# EAGLE library part STA1085EOA3TR (library STA1085EOA3TR)
Accordo2 Dual Core CortexR4/CortexM3 processor, with embedded SRAM, integrated DSP sound subsystem, audio ADCs and DACs, isolated CAN MCU for car radio applications Source: Datasheet <https://www.st.com/resource/en/datasheet/sta1080.pdf>
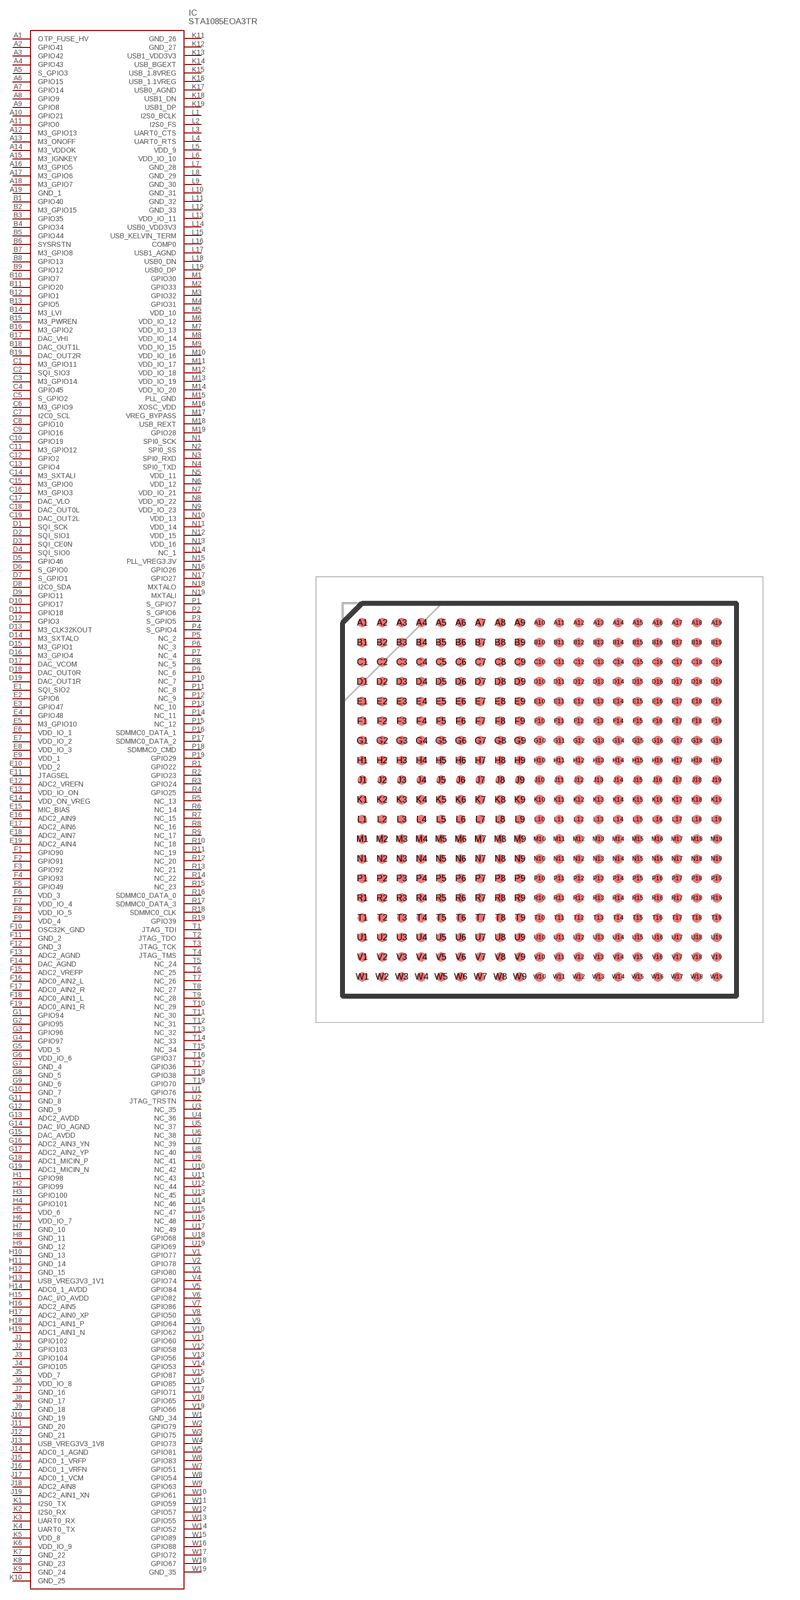
[diagram p0: symbol with the pads of BGA361C80P19X19_1600X1600X170; footprint BGA361C80P19X19_1600X1600X170]

Designator prefix IC

## STA1085EOA3TR (Description: Accordo2 Dual Core CortexR4/CortexM3 processor, with embedded SRAM, integrated DSP sound subsystem, audio ADCs and DACs, isolated CAN MCU for car radio applications; Height: 1.7mm; Manufacturer_Name: STMicroelectronics; Manufacturer_Part_Number: STA1085EOA3TR)  [BGA361C80P19X19_1600X1600X170]
A1  OTP_FUSE_HV
A2  GPIO41
A3  GPIO42
A4  GPIO43
A5  S_GPIO3
A6  GPIO15
A7  GPIO14
A8  GPIO9
A9  GPIO8
A10  GPIO21
A11  GPIO0
A12  M3_GPIO13
A13  M3_ONOFF
A14  M3_VDDOK
A15  M3_IGNKEY
A16  M3_GPIO5
A17  M3_GPIO6
A18  M3_GPIO7
A19  GND_1
B1  GPIO40
B2  M3_GPIO15
B3  GPIO35
B4  GPIO34
B5  GPIO44
B6  SYSRSTN
B7  M3_GPIO8
B8  GPIO13
B9  GPIO12
B10  GPIO7
B11  GPIO20
B12  GPIO1
B13  GPIO5
B14  M3_LVI
B15  M3_PWREN
B16  M3_GPIO2
B17  DAC_VHI
B18  DAC_OUT1L
B19  DAC_OUT2R
C1  M3_GPIO11
C2  SQI_SIO3
C3  M3_GPIO14
C4  GPIO45
C5  S_GPIO2
C6  M3_GPIO9
C7  I2C0_SCL
C8  GPIO10
C9  GPIO16
C10  GPIO19
C11  M3_GPIO12
C12  GPIO2
C13  GPIO4
C14  M3_SXTALI
C15  M3_GPIO0
C16  M3_GPIO3
C17  DAC_VLO
C18  DAC_OUT0L
C19  DAC_OUT2L
D1  SQI_SCK
D2  SQI_SIO1
D3  SQI_CE0N
D4  SQI_SIO0
D5  GPIO46
D6  S_GPIO0
D7  S_GPIO1
D8  I2C0_SDA
D9  GPIO11
D10  GPIO17
D11  GPIO18
D12  GPIO3
D13  M3_CLK32KOUT
D14  M3_SXTALO
D15  M3_GPIO1
D16  M3_GPIO4
D17  DAC_VCOM
D18  DAC_OUT0R
D19  DAC_OUT1R
E1  SQI_SIO2
E2  GPIO6
E3  GPIO47
E4  GPIO48
E5  M3_GPIO10
E6  VDD_IO_1
E7  VDD_IO_2
E8  VDD_IO_3
E9  VDD_1
E10  VDD_2
E11  JTAGSEL
E12  ADC2_VREFN
E13  VDD_IO_ON
E14  VDD_ON_VREG
E15  MIC_BIAS
E16  ADC2_AIN9
E17  ADC2_AIN6
E18  ADC2_AIN7
E19  ADC2_AIN4
F1  GPIO90
F2  GPIO91
F3  GPIO92
F4  GPIO93
F5  GPIO49
F6  VDD_3
F7  VDD_IO_4
F8  VDD_IO_5
F9  VDD_4
F10  OSC32K_GND
F11  GND_2
F12  GND_3
F13  ADC2_AGND
F14  DAC_AGND
F15  ADC2_VREFP
F16  ADC0_AIN2_L
F17  ADC0_AIN2_R
F18  ADC0_AIN1_L
F19  ADC0_AIN1_R
G1  GPIO94
G2  GPIO95
G3  GPIO96
G4  GPIO97
G5  VDD_5
G6  VDD_IO_6
G7  GND_4
G8  GND_5
G9  GND_6
G10  GND_7
G11  GND_8
G12  GND_9
G13  ADC2_AVDD
G14  DAC_I/O_AGND
G15  DAC_AVDD
G16  ADC2_AIN3_YN
G17  ADC2_AIN2_YP
G18  ADC1_MICIN_P
G19  ADC1_MICIN_N
H1  GPIO98
H2  GPIO99
H3  GPIO100
H4  GPIO101
H5  VDD_6
H6  VDD_IO_7
H7  GND_10
H8  GND_11
H9  GND_12
H10  GND_13
H11  GND_14
H12  GND_15
H13  USB_VREG3V3_1V1
H14  ADC0_1_AVDD
H15  DAC_I/O_AVDD
H16  ADC2_AIN5
H17  ADC2_AIN0_XP
H18  ADC1_AIN1_P
H19  ADC1_AIN1_N
J1  GPIO102
J2  GPIO103
J3  GPIO104
J4  GPIO105
J5  VDD_7
J6  VDD_IO_8
J7  GND_16
J8  GND_17
J9  GND_18
J10  GND_19
J11  GND_20
J12  GND_21
J13  USB_VREG3V3_1V8
J14  ADC0_1_AGND
J15  ADC0_1_VRFP
J16  ADC0_1_VRFN
J17  ADC0_1_VCM
J18  ADC2_AIN8
J19  ADC2_AIN1_XN
K1  I2S0_TX
K2  I2S0_RX
K3  UART0_RX
K4  UART0_TX
K5  VDD_8
K6  VDD_IO_9
K7  GND_22
K8  GND_23
K9  GND_24
K10  GND_25
K11  GND_26
K12  GND_27
K13  USB1_VDD3V3
K14  USB_BGEXT
K15  USB_1.8VREG
K16  USB_1.1VREG
K17  USB0_AGND
K18  USB1_DN
K19  USB1_DP
L1  I2S0_BCLK
L2  I2S0_FS
L3  UART0_CTS
L4  UART0_RTS
L5  VDD_9
L6  VDD_IO_10
L7  GND_28
L8  GND_29
L9  GND_30
L10  GND_31
L11  GND_32
L12  GND_33
L13  VDD_IO_11
L14  USB0_VDD3V3
L15  USB_KELVIN_TERM
L16  COMP0
L17  USB1_AGND
L18  USB0_DN
L19  USB0_DP
M1  GPIO30
M2  GPIO33
M3  GPIO32
M4  GPIO31
M5  VDD_10
M6  VDD_IO_12
M7  VDD_IO_13
M8  VDD_IO_14
M9  VDD_IO_15
M10  VDD_IO_16
M11  VDD_IO_17
M12  VDD_IO_18
M13  VDD_IO_19
M14  VDD_IO_20
M15  PLL_GND
M16  XOSC_VDD
M17  VREG_BYPASS
M18  USB_REXT
M19  GPIO28
N1  SPI0_SCK
N2  SPI0_SS
N3  SPI0_RXD
N4  SPI0_TXD
N5  VDD_11
N6  VDD_12
N7  VDD_IO_21
N8  VDD_IO_22
N9  VDD_IO_23
N10  VDD_13
N11  VDD_14
N12  VDD_15
N13  VDD_16
N14  NC_1
N15  PLL_VREG3.3V
N16  GPIO26
N17  GPIO27
N18  MXTALO
N19  MXTALI
P1  S_GPIO7
P2  S_GPIO6
P3  S_GPIO5
P4  S_GPIO4
P5  NC_2
P6  NC_3
P7  NC_4
P8  NC_5
P9  NC_6
P10  NC_7
P11  NC_8
P12  NC_9
P13  NC_10
P14  NC_11
P15  NC_12
P16  SDMMC0_DATA_1
P17  SDMMC0_DATA_2
P18  SDMMC0_CMD
P19  GPIO29
R1  GPIO22
R2  GPIO23
R3  GPIO24
R4  GPIO25
R5  NC_13
R6  NC_14
R7  NC_15
R8  NC_16
R9  NC_17
R10  NC_18
R11  NC_19
R12  NC_20
R13  NC_21
R14  NC_22
R15  NC_23
R16  SDMMC0_DATA_0
R17  SDMMC0_DATA_3
R18  SDMMC0_CLK
R19  GPIO39
T1  JTAG_TDI
T2  JTAG_TDO
T3  JTAG_TCK
T4  JTAG_TMS
T5  NC_24
T6  NC_25
T7  NC_26
T8  NC_27
T9  NC_28
T10  NC_29
T11  NC_30
T12  NC_31
T13  NC_32
T14  NC_33
T15  NC_34
T16  GPIO37
T17  GPIO36
T18  GPIO38
T19  GPIO70
U1  GPIO76
U2  JTAG_TRSTN
U3  NC_35
U4  NC_36
U5  NC_37
U6  NC_38
U7  NC_39
U8  NC_40
U9  NC_41
U10  NC_42
U11  NC_43
U12  NC_44
U13  NC_45
U14  NC_46
U15  NC_47
U16  NC_48
U17  NC_49
U18  GPIO68
U19  GPIO69
V1  GPIO77
V2  GPIO78
V3  GPIO80
V4  GPIO74
V5  GPIO84
V6  GPIO82
V7  GPIO86
V8  GPIO50
V9  GPIO64
V10  GPIO62
V11  GPIO60
V12  GPIO58
V13  GPIO56
V14  GPIO53
V15  GPIO87
V16  GPIO85
V17  GPIO71
V18  GPIO65
V19  GPIO66
W1  GND_34
W2  GPIO79
W3  GPIO75
W4  GPIO73
W5  GPIO81
W6  GPIO83
W7  GPIO51
W8  GPIO54
W9  GPIO63
W10  GPIO61
W11  GPIO59
W12  GPIO57
W13  GPIO55
W14  GPIO52
W15  GPIO89
W16  GPIO88
W17  GPIO72
W18  GPIO67
W19  GND_35

## Footprint BGA361C80P19X19_1600X1600X170 (pad centres in mm)
LFBGA 361 16x16x1.7
smd 0.382 x 0.382: A1 -7.2,7.2; A2 -6.4,7.2; A3 -5.6,7.2; A4 -4.8,7.2; A5 -4,7.2; A6 -3.2,7.2; A7 -2.4,7.2; A8 -1.6,7.2; A9 -0.8,7.2; A10 0,7.2; A11 0.8,7.2; A12 1.6,7.2; A13 2.4,7.2; A14 3.2,7.2; A15 4,7.2; A16 4.8,7.2; A17 5.6,7.2; A18 6.4,7.2; A19 7.2,7.2; B1 -7.2,6.4; B2 -6.4,6.4; B3 -5.6,6.4; B4 -4.8,6.4; B5 -4,6.4; B6 -3.2,6.4; B7 -2.4,6.4; B8 -1.6,6.4; B9 -0.8,6.4; B10 0,6.4; B11 0.8,6.4; B12 1.6,6.4; B13 2.4,6.4; B14 3.2,6.4; B15 4,6.4; B16 4.8,6.4; B17 5.6,6.4; B18 6.4,6.4; B19 7.2,6.4; C1 -7.2,5.6; C2 -6.4,5.6; C3 -5.6,5.6; C4 -4.8,5.6; C5 -4,5.6; C6 -3.2,5.6; C7 -2.4,5.6; C8 -1.6,5.6; C9 -0.8,5.6; C10 0,5.6; C11 0.8,5.6; C12 1.6,5.6; C13 2.4,5.6; C14 3.2,5.6; C15 4,5.6; C16 4.8,5.6; C17 5.6,5.6; C18 6.4,5.6; C19 7.2,5.6; D1 -7.2,4.8; D2 -6.4,4.8; D3 -5.6,4.8; D4 -4.8,4.8; D5 -4,4.8; D6 -3.2,4.8; D7 -2.4,4.8; D8 -1.6,4.8; D9 -0.8,4.8; D10 0,4.8; D11 0.8,4.8; D12 1.6,4.8; D13 2.4,4.8; D14 3.2,4.8; D15 4,4.8; D16 4.8,4.8; D17 5.6,4.8; D18 6.4,4.8; D19 7.2,4.8; E1 -7.2,4; E2 -6.4,4; E3 -5.6,4; E4 -4.8,4; E5 -4,4; E6 -3.2,4; E7 -2.4,4; E8 -1.6,4; E9 -0.8,4; E10 0,4; E11 0.8,4; E12 1.6,4; E13 2.4,4; E14 3.2,4; E15 4,4; E16 4.8,4; E17 5.6,4; E18 6.4,4; E19 7.2,4; F1 -7.2,3.2; F2 -6.4,3.2; F3 -5.6,3.2; F4 -4.8,3.2; F5 -4,3.2; F6 -3.2,3.2; F7 -2.4,3.2; F8 -1.6,3.2; F9 -0.8,3.2; F10 0,3.2; F11 0.8,3.2; F12 1.6,3.2; F13 2.4,3.2; F14 3.2,3.2; F15 4,3.2; F16 4.8,3.2; F17 5.6,3.2; F18 6.4,3.2; F19 7.2,3.2; G1 -7.2,2.4; G2 -6.4,2.4; G3 -5.6,2.4; G4 -4.8,2.4; G5 -4,2.4; G6 -3.2,2.4; G7 -2.4,2.4; G8 -1.6,2.4; G9 -0.8,2.4; G10 0,2.4; G11 0.8,2.4; G12 1.6,2.4; G13 2.4,2.4; G14 3.2,2.4; G15 4,2.4; G16 4.8,2.4; G17 5.6,2.4; G18 6.4,2.4; G19 7.2,2.4; H1 -7.2,1.6; H2 -6.4,1.6; H3 -5.6,1.6; H4 -4.8,1.6; H5 -4,1.6; H6 -3.2,1.6; H7 -2.4,1.6; H8 -1.6,1.6; H9 -0.8,1.6; H10 0,1.6; H11 0.8,1.6; H12 1.6,1.6; H13 2.4,1.6; H14 3.2,1.6; H15 4,1.6; H16 4.8,1.6; H17 5.6,1.6; H18 6.4,1.6; H19 7.2,1.6; J1 -7.2,0.8; J2 -6.4,0.8; J3 -5.6,0.8; J4 -4.8,0.8; J5 -4,0.8; J6 -3.2,0.8; J7 -2.4,0.8; J8 -1.6,0.8; J9 -0.8,0.8; J10 0,0.8; J11 0.8,0.8; J12 1.6,0.8; J13 2.4,0.8; J14 3.2,0.8; J15 4,0.8; J16 4.8,0.8; J17 5.6,0.8; J18 6.4,0.8; J19 7.2,0.8; K1 -7.2,0; K2 -6.4,0; K3 -5.6,0; K4 -4.8,0; K5 -4,0; K6 -3.2,0; K7 -2.4,0; K8 -1.6,0; K9 -0.8,0; K10 0,0; K11 0.8,0; K12 1.6,0; K13 2.4,0; K14 3.2,0; K15 4,0; K16 4.8,0; K17 5.6,0; K18 6.4,0; K19 7.2,0; L1 -7.2,-0.8; L2 -6.4,-0.8; L3 -5.6,-0.8; L4 -4.8,-0.8; L5 -4,-0.8; L6 -3.2,-0.8; L7 -2.4,-0.8; L8 -1.6,-0.8; L9 -0.8,-0.8; L10 0,-0.8; L11 0.8,-0.8; L12 1.6,-0.8; L13 2.4,-0.8; L14 3.2,-0.8; L15 4,-0.8; L16 4.8,-0.8; L17 5.6,-0.8; L18 6.4,-0.8; L19 7.2,-0.8; M1 -7.2,-1.6; M2 -6.4,-1.6; M3 -5.6,-1.6; M4 -4.8,-1.6; M5 -4,-1.6; M6 -3.2,-1.6; M7 -2.4,-1.6; M8 -1.6,-1.6; M9 -0.8,-1.6; M10 0,-1.6; M11 0.8,-1.6; M12 1.6,-1.6; M13 2.4,-1.6; M14 3.2,-1.6; M15 4,-1.6; M16 4.8,-1.6; M17 5.6,-1.6; M18 6.4,-1.6; M19 7.2,-1.6; N1 -7.2,-2.4; N2 -6.4,-2.4; N3 -5.6,-2.4; N4 -4.8,-2.4; N5 -4,-2.4; N6 -3.2,-2.4; N7 -2.4,-2.4; N8 -1.6,-2.4; N9 -0.8,-2.4; N10 0,-2.4; N11 0.8,-2.4; N12 1.6,-2.4; N13 2.4,-2.4; N14 3.2,-2.4; N15 4,-2.4; N16 4.8,-2.4; N17 5.6,-2.4; N18 6.4,-2.4; N19 7.2,-2.4; P1 -7.2,-3.2; P2 -6.4,-3.2; P3 -5.6,-3.2; P4 -4.8,-3.2; P5 -4,-3.2; P6 -3.2,-3.2; P7 -2.4,-3.2; P8 -1.6,-3.2; P9 -0.8,-3.2; P10 0,-3.2; P11 0.8,-3.2; P12 1.6,-3.2; P13 2.4,-3.2; P14 3.2,-3.2; P15 4,-3.2; P16 4.8,-3.2; P17 5.6,-3.2; P18 6.4,-3.2; P19 7.2,-3.2; R1 -7.2,-4; R2 -6.4,-4; R3 -5.6,-4; R4 -4.8,-4; R5 -4,-4; R6 -3.2,-4; R7 -2.4,-4; R8 -1.6,-4; R9 -0.8,-4; R10 0,-4; R11 0.8,-4; R12 1.6,-4; R13 2.4,-4; R14 3.2,-4; R15 4,-4; R16 4.8,-4; R17 5.6,-4; R18 6.4,-4; R19 7.2,-4; T1 -7.2,-4.8; T2 -6.4,-4.8; T3 -5.6,-4.8; T4 -4.8,-4.8; T5 -4,-4.8; T6 -3.2,-4.8; T7 -2.4,-4.8; T8 -1.6,-4.8; T9 -0.8,-4.8; T10 0,-4.8; T11 0.8,-4.8; T12 1.6,-4.8; T13 2.4,-4.8; T14 3.2,-4.8; T15 4,-4.8; T16 4.8,-4.8; T17 5.6,-4.8; T18 6.4,-4.8; T19 7.2,-4.8; U1 -7.2,-5.6; U2 -6.4,-5.6; U3 -5.6,-5.6; U4 -4.8,-5.6; U5 -4,-5.6; U6 -3.2,-5.6; U7 -2.4,-5.6; U8 -1.6,-5.6; U9 -0.8,-5.6; U10 0,-5.6; U11 0.8,-5.6; U12 1.6,-5.6; U13 2.4,-5.6; U14 3.2,-5.6; U15 4,-5.6; U16 4.8,-5.6; U17 5.6,-5.6; U18 6.4,-5.6; U19 7.2,-5.6; V1 -7.2,-6.4; V2 -6.4,-6.4; V3 -5.6,-6.4; V4 -4.8,-6.4; V5 -4,-6.4; V6 -3.2,-6.4; V7 -2.4,-6.4; V8 -1.6,-6.4; V9 -0.8,-6.4; V10 0,-6.4; V11 0.8,-6.4; V12 1.6,-6.4; V13 2.4,-6.4; V14 3.2,-6.4; V15 4,-6.4; V16 4.8,-6.4; V17 5.6,-6.4; V18 6.4,-6.4; V19 7.2,-6.4; W1 -7.2,-7.2; W2 -6.4,-7.2; W3 -5.6,-7.2; W4 -4.8,-7.2; W5 -4,-7.2; W6 -3.2,-7.2; W7 -2.4,-7.2; W8 -1.6,-7.2; W9 -0.8,-7.2; W10 0,-7.2; W11 0.8,-7.2; W12 1.6,-7.2; W13 2.4,-7.2; W14 3.2,-7.2; W15 4,-7.2; W16 4.8,-7.2; W17 5.6,-7.2; W18 6.4,-7.2; W19 7.2,-7.2